# EAGLE library part DISPLAY-MODULE (library uBraids_SE)
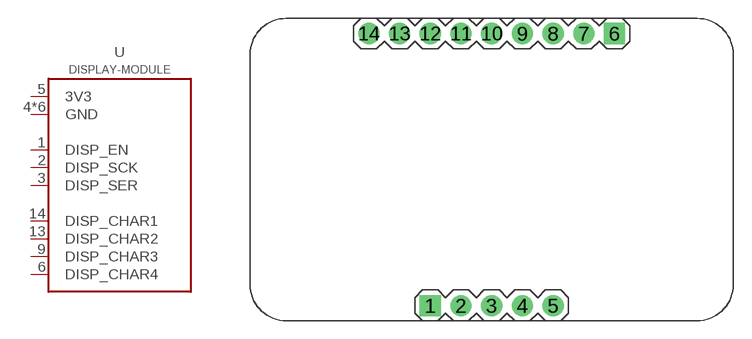
[diagram p9: symbol with the pads of DISPLAY-MODULE; footprint DISPLAY-MODULE]

Designator prefix -

## DISPLAY-MODULE  [DISPLAY-MODULE]
1  DISP_EN
2  DISP_SCK
3  DISP_SER
4  GND
5  3V3
6  DISP_CHAR4
7  GND
8  GND
9  DISP_CHAR3
10  GND
11  GND
12  GND
13  DISP_CHAR2
14  DISP_CHAR1

## Footprint DISPLAY-MODULE (pad centres in mm)
drill 1 pad 1.75 square: 1 14.92,1.25; 6 30.16,23.75
drill 1 pad 1.75: 2 17.46,1.25; 3 20,1.25; 4 22.54,1.25; 5 25.08,1.25; 7 27.62,23.75; 8 25.08,23.75; 9 22.54,23.75; 10 20,23.75; 11 17.46,23.75; 12 14.92,23.75; 13 12.38,23.75; 14 9.84,23.75